# EAGLE library part M74HC365RM13TR (library ST Microelctronics_By_element14_Batch_1)
HEX BUS BUFFER
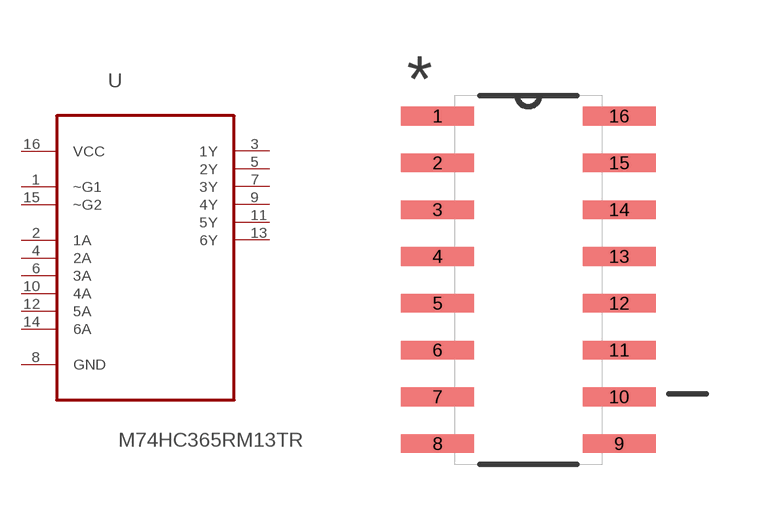
[diagram p228: symbol with the pads of SOIC127P600X175-16N; footprint SOIC127P600X175-16N]

Designator prefix U

## M74HC365RM13TR (MPN: M74HC365RM13TR; OC_FARNELL: 1607603; OC_NEWARK: 89K0891; PACKAGE: SOIC-16; SUPPLIER: STMICROELECTRONICS)  [SOIC127P600X175-16N]
1  ~G1  in
2  1A  in
3  1Y  out
4  2A  in
5  2Y  out
6  3A  in
7  3Y  out
8  GND  pas
9  4Y  out
10  4A  in
11  5Y  out
12  5A  in
13  6Y  out
14  6A  in
15  ~G2  in
16  VCC  pwr

## Footprint SOIC127P600X175-16N (pad centres in mm)
smd 1.981 x 0.508: 1 -2.464,4.445; 2 -2.464,3.175; 3 -2.464,1.905; 4 -2.464,0.635; 5 -2.464,-0.635; 6 -2.464,-1.905; 7 -2.464,-3.175; 8 -2.464,-4.445; 9 2.464,-4.445; 10 2.464,-3.175; 11 2.464,-1.905; 12 2.464,-0.635; 13 2.464,0.635; 14 2.464,1.905; 15 2.464,3.175; 16 2.464,4.445